# Altium schematic symbol library CL10B105KA8NFNC.SchLib: 1 symbol
Pins are listed as number, name and electrical type; pins without a type are passive.

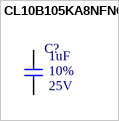
[diagram p0: symbol CL10B105KA8NFNC]

## CL10B105KA8NFNC
designator C?  Rated Voltage: 25V  Tolerance: 10%  Capacitence: 1uF  (hidden comment: CL10B105KA8NFNC)
CAP CER 1UF 25V X7R 0603; MFR: Samsung Electro-Mechanics; PN: CL10B105KA8NFNC; ComponentLink1Description: Datasheet; ComponentLink1URL: http://www.samsungsem.com/kr/support/product-search/mlcc/CL10B105KA8NFNC.jsp; Temperature Coefficient: X7R; Package: 0603; Footprint: C0603; Supplier 1: Digi-Key; Supplier Part Number 1: 1276-1942-1-ND
footprint C0603 (Generic C0603 Footprint)
pins: 1, 2